# Altium integrated library 6364372-1.IntLib: 1 symbol
Pins are listed as number, name and electrical type; pins without a type are passive.

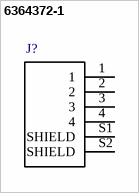
[diagram p0: symbol 6364372-1]

## 6364372-1
designator J?  (value not drawn)
/ Conn USB RCP 4 POS Solder RA Thru-Hole 4 Terminal 1 Port Box /; Number_of_Positions: 4; MF: TE Connectivity; Centerline_Pitch: 2 mm[.078 in]; Product_Type: Connector; MP: 6364372-1; TE_purchase_URL: https://www.te.com/usa-en/product-6364372-1.html?te_bu=Cor&te_type=disp&te_campaign=seda_glo_cor-seda-global-disp-prtnr-fy19-seda-model-bom-cta_sma-317_1&elqCampaignId=32493; SnapEDA_Link: https://www.snapeda.com/parts/6364372-1/TE%20Connectivity%20AMP%20Connectors/view-part/1737216/?ref=snap; Package: None; Price: None; EU_RoHS_Compliance: Compliant; Availability: Unavailable; Value: *
footprint *TE_6364372-1_6364372-1(Primary)
pins: 1, 2, 3, 4, S1 SHIELD, S2 SHIELD